# Altium schematic symbol library PQQ10W-Q24-S3-S.SchLib: 1 symbol
Pins are listed as number, name and electrical type; pins without a type are passive.

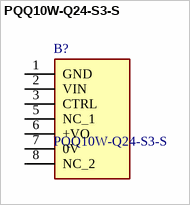
[diagram p0: symbol PQQ10W-Q24-S3-S]

## PQQ10W-Q24-S3-S
designator B?
Isolated DC/DC Converters dc-dc isolated, 10 W, 9 36 Vdc input, 3.3 Vdc, 2.4 A, single regulated output, SIP; Manufacturer_Name: CUI Inc.; Geometry.Height: 12.5mm; Manufacturer_Part_Number: PQQ10W-Q24-S3-S; Mouser Part Number: *; Mouser Price/Stock: *; Arrow Part Number: *; Arrow Price/Stock: *; Datasheet Link: https://www.mouser.jp/datasheet/2/670/pqq10w_s-1915167.pdf
footprint PQQ10WQ24S3S
pins: 1 GND, 2 VIN, 3 CTRL, 5 NC_1, 6 +VO, 7 0V, 8 NC_2